# EAGLE library part JST6 (library Adams)
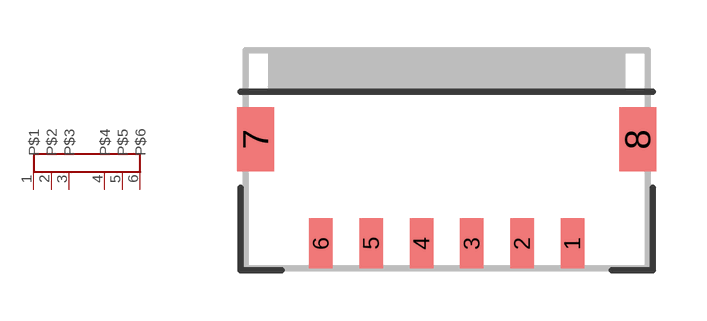
[diagram p1: symbol with the pads of JST1.5X6; footprint JST1.5X6]

Designator prefix -

## JST6X1.5  [JST1.5X6]
1  P$1
2  P$2
3  P$3
4  P$4
5  P$5
6  P$6

## Footprint JST1.5X6 (pad centres in mm)
smd 0.7 x 1.5: 1 3.75,-1.65; 2 2.25,-1.65; 3 0.75,-1.65; 4 -0.75,-1.65; 5 -2.25,-1.65; 6 -3.75,-1.65
smd 1.1 x 1.9: 7 -5.7,1.45; 8 5.7,1.45